# EAGLE library part ICM-42605 (library RoverWing-V1.5)
Single-Interface MotionTracking device The ICM-42605 is a 6-axis MotionTracking device that combines a 3-axis gyroscope, and a 3-axis accelerometer in a small 2.5x3x0.91 mm (14-pin LGA) package. It also features a 2K-byte FIFO that can lower the traffic on the serial bus interface, and reduce power consumption by allowing the system processor to burst read sensor data and then go into a low-power mode.
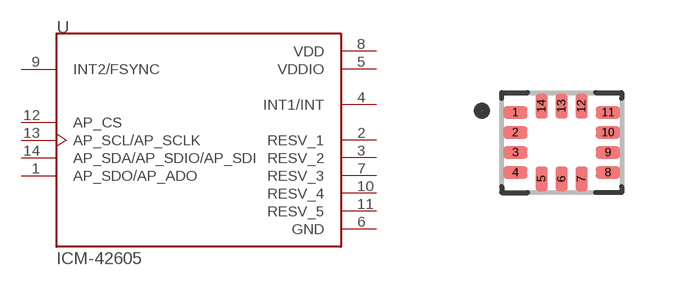
[diagram p0: symbol with the pads of PQFN50P300X250X97-14N; footprint PQFN50P300X250X97-14N]

Designator prefix U

## ICM-42605 (DESCRIPTION: Accelerometer, Gyroscope, 6 Axis Sensor I²C, I3C℠, SPI Output; DIGI-KEY_PART_NUMBER: 1428-1152-1-ND; DIGI-KEY_PURCHASE_URL: https://www.digikey.com/product-detail/en/tdk-invensense/ICM-42605/1428-1152-1-ND/9953675?utm_source=snapeda&utm_medium=aggregator&utm_campaign=symbol; MF: TDK InvenSense; MP: ICM-42605; PACKAGE: - TDK InvenSense)  [PQFN50P300X250X97-14N]
1  AP_SDO/AP_ADO  out
2  RESV_1
3  RESV_2
4  INT1/INT  out
5  VDDIO  pwr
6  GND  pwr
7  RESV_3
8  VDD  pwr
9  INT2/FSYNC
10  RESV_4
11  RESV_5
12  AP_CS  in
13  AP_SCL/AP_SCLK  in
14  AP_SDA/AP_SDIO/AP_SDI

## Footprint PQFN50P300X250X97-14N (pad centres in mm)
smd 0.61 x 0.3: 1 -1.16,0.75; 2 -1.16,0.25; 3 -1.16,-0.25; 4 -1.16,-0.75; 8 1.16,-0.75; 9 1.16,-0.25; 10 1.16,0.25; 11 1.16,0.75
smd 0.3 x 0.61: 5 -0.5,-0.91; 6 0,-0.91; 7 0.5,-0.91; 12 0.5,0.91; 13 0,0.91; 14 -0.5,0.91